# EAGLE library part XBEE802.15.4 (library PEGMA)
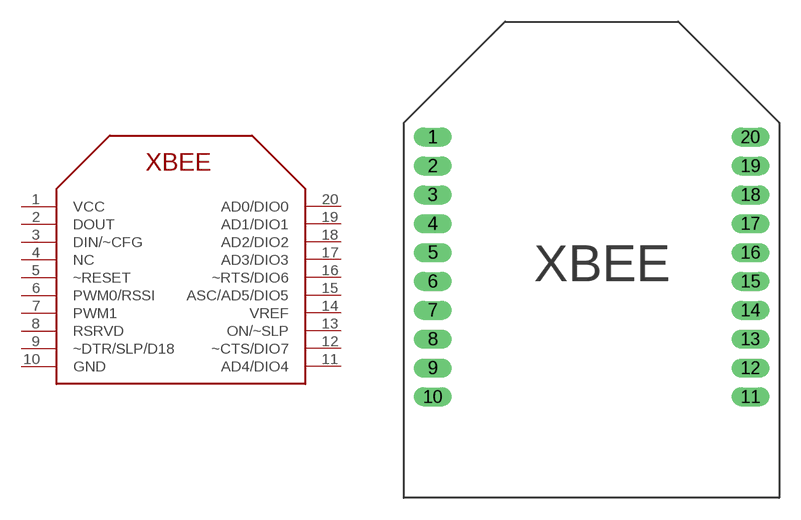
[diagram p12: symbol with the pads of XBEE; footprint XBEE]

Designator prefix -

## XBEE802.15.4  [XBEE]
1  VCC
2  DOUT
3  DIN/~CFG
4  NC
5  ~RESET
6  PWM0/RSSI
7  PWM1
8  RSRVD
9  ~DTR/SLP/D18
10  GND
11  AD4/DIO4
12  ~CTS/DIO7
13  ON/~SLP
14  VREF
15  ASC/AD5/DIO5
16  ~RTS/DIO6
17  AD3/DIO3
18  AD2/DIO2
19  AD1/DIO1
20  AD0/DIO0

## Footprint XBEE (pad centres in mm)
drill 0.813 long: 1 -11,8; 2 -11,6; 3 -11,4; 4 -11,2; 5 -11,0; 6 -11,-2; 7 -11,-4; 8 -11,-6; 9 -11,-8; 10 -11,-10; 11 11,-10; 12 11,-8; 13 11,-6; 14 11,-4; 15 11,-2; 16 11,0; 17 11,2; 18 11,4; 19 11,6; 20 11,8